# Altium footprint library RPI.PcbLib: 1 footprints
Each footprint in its own frame and in the unit in brackets; x right, y up, seen from the top. Pads: shape width x height; smd on the part's side, far side on the other; paste and mask are expansions set on the pad; w line width, h text height; cw(c..) or ccw(c..) is an arc to the next point about the centre after c.
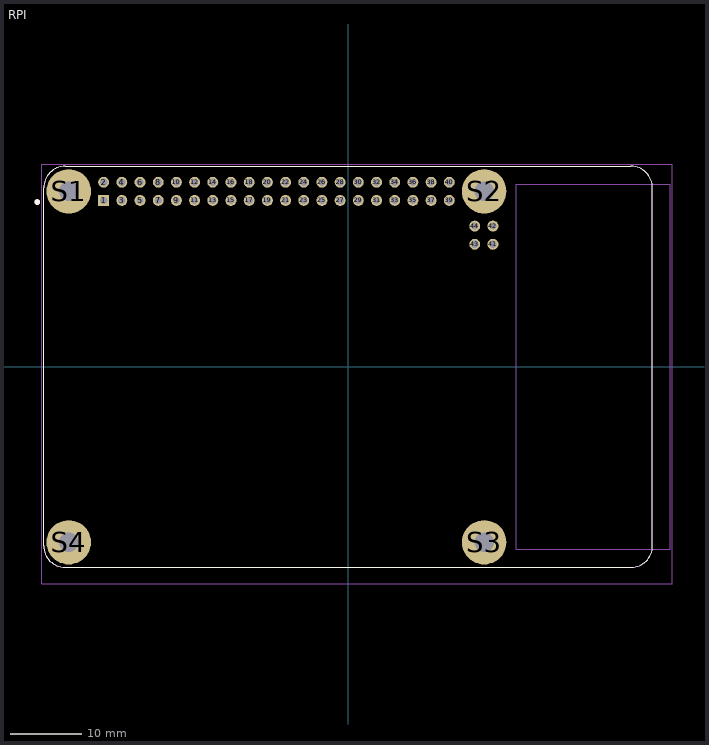
[diagram p0: the footprint, top view; thin cyan lines are the x and y axes]

## RPI [mil]
height 629.92
pads (48):
  rect 60x60 / inner round 60 / far side rect 60x60 hole 40: 1(-1343.7,914.57)
  round 60 hole 40: 2(-1343.7,1014.57) 3(-1243.7,914.57) 4(-1243.7,1014.57) 5(-1143.7,914.57) 6(-1143.7,1014.57) 7(-1043.7,914.57) 8(-1043.7,1014.57) 9(-943.7,914.57) 10(-943.7,1014.57) 11(-843.7,914.57) 12(-843.7,1014.57) 13(-743.7,914.57) 14(-743.7,1014.57) 15(-643.7,914.57) 16(-643.7,1014.57) 17(-543.7,914.57) 18(-543.7,1014.57) 19(-443.7,914.57) 20(-443.7,1014.57) 21(-343.7,914.57) 22(-343.7,1014.57) 23(-243.7,914.57) 24(-243.7,1014.57) 25(-143.7,914.57) 26(-143.7,1014.57) 27(-43.7,914.57) 28(-43.7,1014.57) 29(56.3,914.57) 30(56.3,1014.57) 31(156.3,914.57) 32(156.3,1014.57) 33(256.3,914.57) 34(256.3,1014.57) 35(356.3,914.57) 36(356.3,1014.57) 37(456.3,914.57) 38(456.3,1014.57) 39(556.3,914.57) 40(556.3,1014.57) 41(796.46,673.5) 42(796.46,773.5) 43(696.46,673.5) 44(696.46,773.5)
  round 244.09 hole 108.27: S1(-1535.43,964.57) S2(748.03,964.57) S3(748.03,-964.57) S4(-1535.43,-964.57)
Top Overlay:
  circle w15.75: c-1708.66,905.51 r7.87
  lines w5: -1673.23,-984.25 ccw(c-1555.12,-984.25) -1555.12,-1102.36 1555.12,-1102.36 ccw(c1555.12,-984.25) 1673.23,-984.25 1673.23,984.25 ccw(c1555.12,984.25) 1555.12,1102.36 -1555.12,1102.36 ccw(c-1555.12,984.25) -1673.23,984.25 -1673.23,-984.25
Mechanical 13:
  circle w15.75: c-1708.66,905.51 r7.87
  lines w5: -1673.23,-984.25 ccw(c-1555.12,-984.25) -1555.12,-1102.36 1555.12,-1102.36 ccw(c1555.12,-984.25) 1673.23,-984.25 1673.23,984.25 ccw(c1555.12,984.25) 1555.12,1102.36 -1555.12,1102.36 ccw(c-1555.12,984.25) -1673.23,984.25 -1673.23,-984.25 ; 925.2,-1003.94 925.2,1003.94 1771.65,1003.94 1771.65,-1003.94 925.2,-1003.94
Mechanical 15:
  lines w1.97: -1683.07,-1191.14 1781.5,-1191.14 1781.5,1112.2 -1683.07,1112.2 -1683.07,-1191.14